# Altium schematic symbol library Schlib1.SchLib: 2 symbols
Pins are listed as number, name and electrical type; pins without a type are passive.

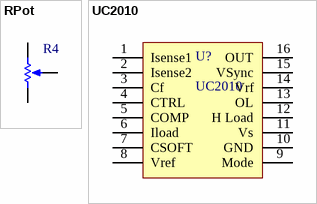
[diagram p0: symbols RPot to UC2010]

## RPot
designator R4  (value not drawn)
Potentiometer; Sim Note: Enter the Resistance value and the set point into parameter fields.; Set Position: 0.5; Value: 1K; Published: 8-Jun-2000; LatestRevisionDate: 17-Jul-2002; LatestRevisionNote: Re-released for DXP Platform.; PackageReference: VR5; Publisher: Altium Limited; PackageDescription: Variable Resistor, Thru-Hole; 3 Leads
footprint VR5 (Thru-Hole; 3 Leads)
simulation model POT (Potentiometer)
pins: 1 BOT, 2 TAP, 3 TOP
1 alternate drawing of the same symbol

## UC2010
designator U?
footprint RR_SO16 (SOIC, 16-Leads, Body 9.9x3.8mm, Pitch 1.27mm, IPC Medium Density)
pins: 1 Isense1, 2 Isense2, 3 Cf, 4 CTRL, 5 COMP, 6 Iload, 7 CSOFT, 8 Vref, 9 Mode, 10 GND, 11 Vs, 12 H Load, 13 OL, 14 Vrf, 15 VSync, 16 OUT